# EAGLE library part LED_TRI (library JLB6_Display)
Triple led for pcb
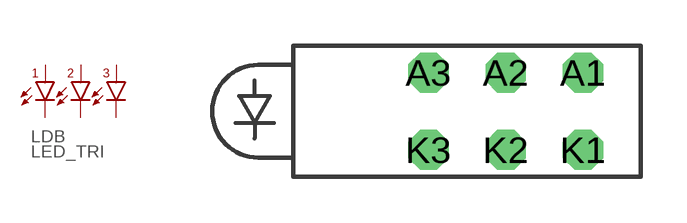
[diagram p3: symbol with the pads of LED-TRI; footprint LED-TRI]

Designator prefix LDB

## LED_TRI  [LED-TRI]
A1  A1  pas
A2  A2  pas
A3  A3  pas
K1  K1  pas
K2  K2  pas
K3  K3  pas

## Footprint LED-TRI (pad centres in mm)
drill 0.813 octagon: A1 3.81,1.27; A2 1.27,1.27; A3 -1.27,1.27; K1 3.81,-1.27; K2 1.27,-1.27; K3 -1.27,-1.27